# Altium footprint library PrincipalV1_4.PcbLib: 26 footprints (part 2 of 2)
Each footprint in its own frame and in the unit in brackets; x right, y up, seen from the top. Pads: shape width x height; smd on the part's side, far side on the other; paste and mask are expansions set on the pad; w line width, h text height; cw(c..) or ccw(c..) is an arc to the next point about the centre after c.
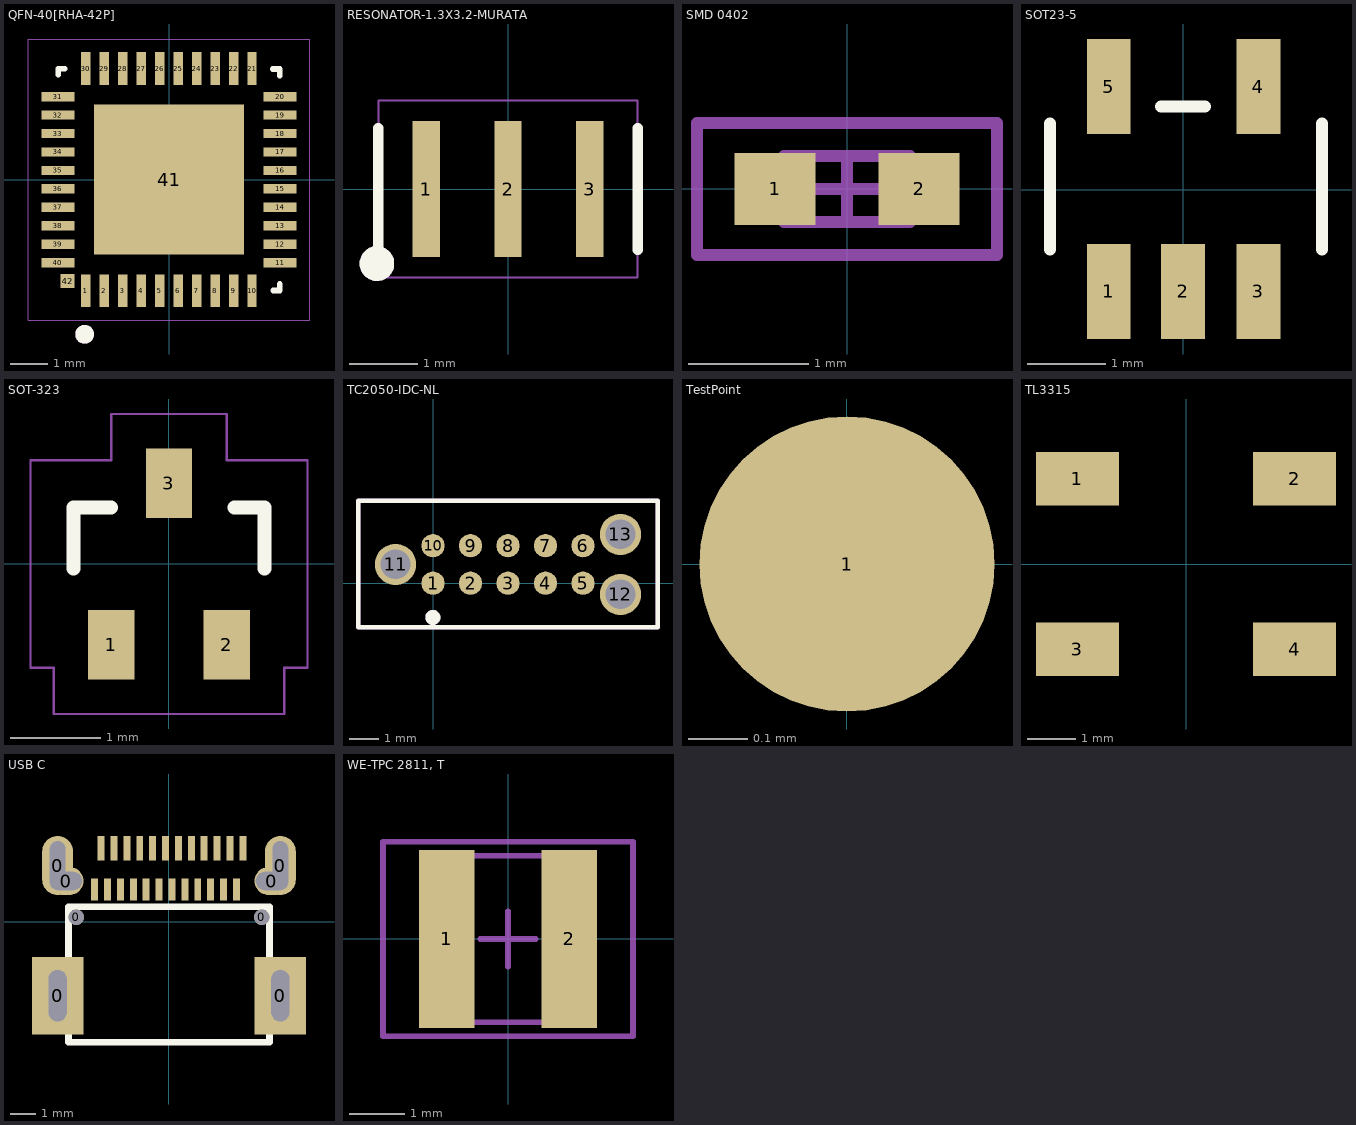
[diagram p1: the footprints below, top view; thin cyan lines are the x and y axes]

## QFN-40[RHA-42P] [mil]
pads (42):
  rect 10x35 smd: 1(-88.7,-118.6) 2(-69,-118.6) 3(-49.3,-118.6) 4(-29.6,-118.6) 5(-9.9,-118.6) 6(9.8,-118.6) 7(29.5,-118.6) 8(49.2,-118.6) 9(68.9,-118.6) 10(88.6,-118.6) 21(88.6,118.4) 22(68.9,118.4) 23(49.2,118.4) 24(29.5,118.4) 25(9.8,118.4) 26(-9.9,118.4) 27(-29.6,118.4) 28(-49.3,118.4) 29(-69,118.4) 30(-88.7,118.4)
  rect 35x10 smd: 11(118.5,-88.7) 12(118.5,-69) 13(118.5,-49.3) 14(118.5,-29.6) 15(118.5,-9.9) 16(118.5,9.8) 17(118.5,29.5) 18(118.5,49.2) 19(118.5,68.9) 20(118.5,88.6) 31(-118.5,88.6) 32(-118.5,68.9) 33(-118.5,49.2) 34(-118.5,29.5) 35(-118.5,9.8) 36(-118.5,-9.9) 37(-118.5,-29.6) 38(-118.5,-49.3) 39(-118.5,-69) 40(-118.5,-88.7)
  rect 160x160 smd: 41(0,0)
  rect 15x15 smd: 42(-108.2,-108.2)
Top Overlay:
  circle w10: c-90,-165 r5
  lines w6: -118.11,111.76 -118.11,118.11 -111.12,118.11 ; 110.68,118.01 118.11,118.01 118.11,110.93 ; 111.16,-118.21 118.11,-118.21 118.11,-111.28
Mechanical 1:
  circle w10: c-90,-165 r5
  lines w1.1: -150,-150 150,-150 150,150 -150,150 -150,-150
  text "U6" at -20,27.42 h30
3D body: height 41.34, standoff 1.97, extent -115.15,-115.23 115.16,115.24
3D body: height 7.87, standoff 0, extent -75.77,-115.26 -62.38,-101.55
3D body: height 7.87, standoff 0, extent -55.83,-115.33 -42.43,-101.62
3D body: height 7.87, standoff 0, extent 3.06,-115.28 16.45,-101.57
3D body: height 7.87, standoff 0, extent -16.89,-115.33 -3.49,-101.62
3D body: height 7.87, standoff 0, extent -36.4,-115.33 -23,-101.62
3D body: height 7.87, standoff 0, extent 81.59,-115.28 94.99,-101.56
3D body: height 7.87, standoff 0, extent 62.16,-115.28 75.56,-101.57
3D body: height 7.87, standoff 0, extent 42.22,-115.32 55.61,-101.61
3D body: height 7.87, standoff 0, extent 22.71,-115.32 36.1,-101.61
3D body: height 7.87, standoff 0, extent 101.52,22.87 115.23,36.26
3D body: height 7.87, standoff 0, extent 101.52,42.38 115.23,55.77
3D body: height 7.87, standoff 0, extent 101.47,62.32 115.19,75.71
3D body: height 7.87, standoff 0, extent 101.47,81.75 115.18,95.15
3D body: height 7.87, standoff 0, extent 101.52,-36.24 115.24,-22.84
3D body: height 7.87, standoff 0, extent 101.52,-16.73 115.24,-3.33
3D body: height 7.87, standoff 0, extent 101.48,3.22 115.19,16.61
3D body: height 7.87, standoff 0, extent 101.53,-55.67 115.24,-42.28
3D body: height 7.87, standoff 0, extent 101.46,-75.61 115.17,-62.22
3D body: height 7.87, standoff 0, extent 101.46,-95.12 115.17,-81.73
3D body: height 7.87, standoff 0, extent -36.56,101.65 -23.17,115.36
3D body: height 7.87, standoff 0, extent -56.08,101.65 -42.68,115.36
3D body: height 7.87, standoff 0, extent -76.02,101.6 -62.62,115.32
3D body: height 7.87, standoff 0, extent -95.45,101.6 -82.06,115.31
3D body: height 7.87, standoff 0, extent 22.54,101.65 35.93,115.36
3D body: height 7.87, standoff 0, extent 3.03,101.65 16.42,115.36
3D body: height 7.87, standoff 0, extent -16.91,101.61 -3.52,115.32
3D body: height 7.87, standoff 0, extent 41.97,101.65 55.37,115.37
3D body: height 7.87, standoff 0, extent 61.91,101.59 75.31,115.3
3D body: height 7.87, standoff 0, extent 81.43,101.59 94.82,115.3
3D body: height 7.87, standoff 0, extent -115.27,-36.59 -101.56,-23.19
3D body: height 7.87, standoff 0, extent -115.27,-56.1 -101.56,-42.7
3D body: height 7.87, standoff 0, extent -115.23,-76.04 -101.52,-62.65
3D body: height 7.87, standoff 0, extent -115.22,-95.47 -101.51,-82.08
3D body: height 7.87, standoff 0, extent -115.28,22.52 -101.56,35.91
3D body: height 7.87, standoff 0, extent -115.28,3.01 -101.56,16.4
3D body: height 7.87, standoff 0, extent -115.23,-16.94 -101.52,-3.54
3D body: height 7.87, standoff 0, extent -115.28,41.95 -101.57,55.34
3D body: height 7.87, standoff 0, extent -115.21,61.89 -101.5,75.29
3D body: height 7.87, standoff 0, extent -115.21,81.4 -101.5,94.8

## RESONATOR-1.3X3.2-MURATA [mm]
pads (3):
  rect 0.4x2 smd: 1(-1.2,0) 2(0,0) 3(1.2,0)
Top Overlay:
  circle w0.254: c-1.922,-1.094 r0.127
  lines w0.152: -1.905,-0.889 -1.905,0.889 ; 1.905,-0.889 1.905,0.889
Mechanical 1:
  circle w0.254: c-1.922,-1.094 r0.127
  lines w0.028: -1.9,-1.3 -1.9,1.3 1.9,1.3 1.9,-1.3 -1.9,-1.3
3D body: height 0.7, standoff 0, extent -1.604,-0.64 1.596,0.66

## SMD 0402 [mm]
pads (2):
  rect 0.675x0.6 smd: 1(-0.6,0) 2(0.6,0)
Mechanical 13:
  lines w0.1: -0.525,-0.275 -0.525,0.275 0.525,0.275 0.525,-0.275 -0.525,-0.275
Mechanical 15:
  lines w0.1: -0.275,0 0.275,0 ; 0,-0.275 0,0.275 ; -1.25,-0.55 -1.25,0.55 1.25,0.55 1.25,-0.55 -1.25,-0.55
3D body: height 0.49, standoff -0.01, extent -0.5,-0.25 0.5,0.25

## SOT23-5 [mil]
pads (5):
  rect 22x48 smd: 1(-37.4,-51.18) 2(0,-51.18) 3(38,-51.18) 4(38,52) 5(-37.4,52)
Top Overlay:
  lines w6: -67,-30 -67,33.5 ; -11,42 11,42 ; 70,-30 70,33.5
Mechanical 16:
  rectangle: -47.27,34.06 -27.59,60.06
  rectangle: 28,34 48,60
  rectangle: 28,-59.06 48,-33.46
  rectangle: -9.84,-59.05 10,-33.47
  rectangle: -47.24,-59.06 -27.56,-33.46
3D body: height 41.65, standoff -1.65, extent -59.05,-50.21 59.06,48.22

## SOT-323 [mil]
pads (3):
  rect 20x30 smd: 1(-25,-35) 2(25,-35) 3(0,35)
Top Overlay:
  lines w6: -41.34,-1.99 -41.34,24.41 -25,24.41 ; 28.45,24.41 41.34,24.41 41.34,-1.99
Mechanical 1:
  lines w1: -60,-45 -60,45 -25,45 -25,65 25,65 25,45 60,45 60,-45 50,-45 50,-65 -50,-65 -50,-45 -60,-45
3D body: height 43.31, standoff 0, extent -43.02,-44.92 43.59,43.47

## TC2050-IDC-NL [mil]
pads (13):
  round 31 smd mask+1.5: 1(0,0) 2(50,0) 3(100,0) 4(150,0) 5(200,0) 6(200,50) 7(150,50) 8(100,50) 9(50,50) 10(0,50)
  round 55.12 hole 39.37: 11(-50,25) 12(250,-15) 13(250,65)
Top Overlay:
  circle w10: c-0.25,-45.69 r5
  lines w6: -100,-58.86 300,-58.86 300,110 -100,110 -100,-58.86
Mechanical 1:
  circle w10: c-0.25,-45.69 r5
  lines w6: -100,-58.86 -100,110 300,110 300,-58.86 -100,-58.86

## TestPoint [mm]
pads (1):
  round 0.5 smd: 1(0.001,0.001)

## TL3315 [mm]
pads (4):
  rect 1.7x1.1 smd: 1(-2.225,1.75) 2(2.225,1.75) 3(-2.225,-1.75) 4(2.225,-1.75)
3D body: height 0.5, standoff 0, extent -2.245,-2.26 2.25,2.25
3D body: height 0.55, standoff 0, extent -1.734,-1.752 1.752,1.741

## USB C [mm]
pads (32):
  rect 2x3 hole 0.7 slot 2 at 90 deg: 0(-4.32,-2.862) 0(4.32,-2.862)
  oval 1.2x2.3 hole 0.6 slot 1.9 at 90 deg: 0(-4.32,2.188) 0(4.32,2.188)
  oval 1.35x1.1 hole 0.7 slot 1.25 at 0 deg: 0(-3.995,1.588) 0(3.995,1.588)
  round 0.6 hole 0.6: 0(-3.6,0.188) 0(3.6,0.188)
  rect 0.27x0.95 smd: A1(-2.635,2.863) A2(-2.135,2.863) A3(-1.635,2.863) A4(-1.135,2.863) A5(-0.635,2.863) A6(-0.135,2.863) A7(0.365,2.863) A8(0.865,2.863) A9(1.365,2.863) A10(1.865,2.863) A11(2.365,2.863) A12(2.865,2.863)
  rect 0.27x0.85 smd: B1(2.615,1.263) B2(2.115,1.263) B3(1.615,1.263) B4(1.115,1.263) B5(0.615,1.263) B6(0.115,1.263) B7(-0.385,1.263) B8(-0.885,1.263) B9(-1.385,1.263) B10(-1.885,1.263) B11(-2.385,1.263) B12(-2.885,1.263)
Top Overlay:
  lines w0.254: -3.9,-4.662 3.9,-4.662 3.9,0.588 -3.9,0.588 -3.9,-4.662
3D body: height 3.17, standoff -0.6, extent -4.44,-5.147 4.5,3.023

## WE-TPC 2811, T [mm]
pads (2):
  rect 1x3.2 smd: 1(-1.1,0) 2(1.1,0)
Mechanical 13:
  lines w0.1: -1.5,-1.5 1.5,-1.5 1.5,1.5 -1.5,1.5 -1.5,-1.5
Mechanical 15:
  lines w0.1: -0.5,0 0.5,0 ; 0,-0.5 0,0.5 ; -2.25,-1.75 2.25,-1.75 2.25,1.75 -2.25,1.75 -2.25,-1.75
3D body: height 1.15, standoff -0.01, extent -1.39,-1.39 1.39,1.39